# Altium schematic symbol library DG4157EDN-T1-GE4.SchLib: 1 symbol
Pins are listed as number, name and electrical type; pins without a type are passive.

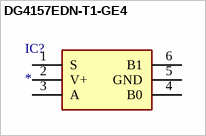
[diagram p0: symbol DG4157EDN-T1-GE4]

## DG4157EDN-T1-GE4
designator IC?
Integrated Circuit; Manufacturer_Name: Vishay; Manufacturer_Part_Number: DG4157EDN-T1-GE4; Datasheet Link: https://componentsearchengine.com//DG4157EDN-T1-GE4.pdf; Height: 0.38mm; Mouser2 Part Number: 78-DG4157EDN-T1-GE4; Mouser2 Price/Stock: https://www.mouser.com/Search/Refine.aspx?Keyword=78-DG4157EDN-T1-GE4
footprint SON35P100X100X38-6N
pins: 1 S, 2 V+, 3 A, 4 B0, 5 GND, 6 B1